# Altium footprint library BASIC Library.PCBLIB: 464 footprints (part 21 of 30)
Each footprint in its own frame and in the unit in brackets; x right, y up, seen from the top. Pads: shape width x height; smd on the part's side, far side on the other; paste and mask are expansions set on the pad; w line width, h text height; cw(c..) or ccw(c..) is an arc to the next point about the centre after c.
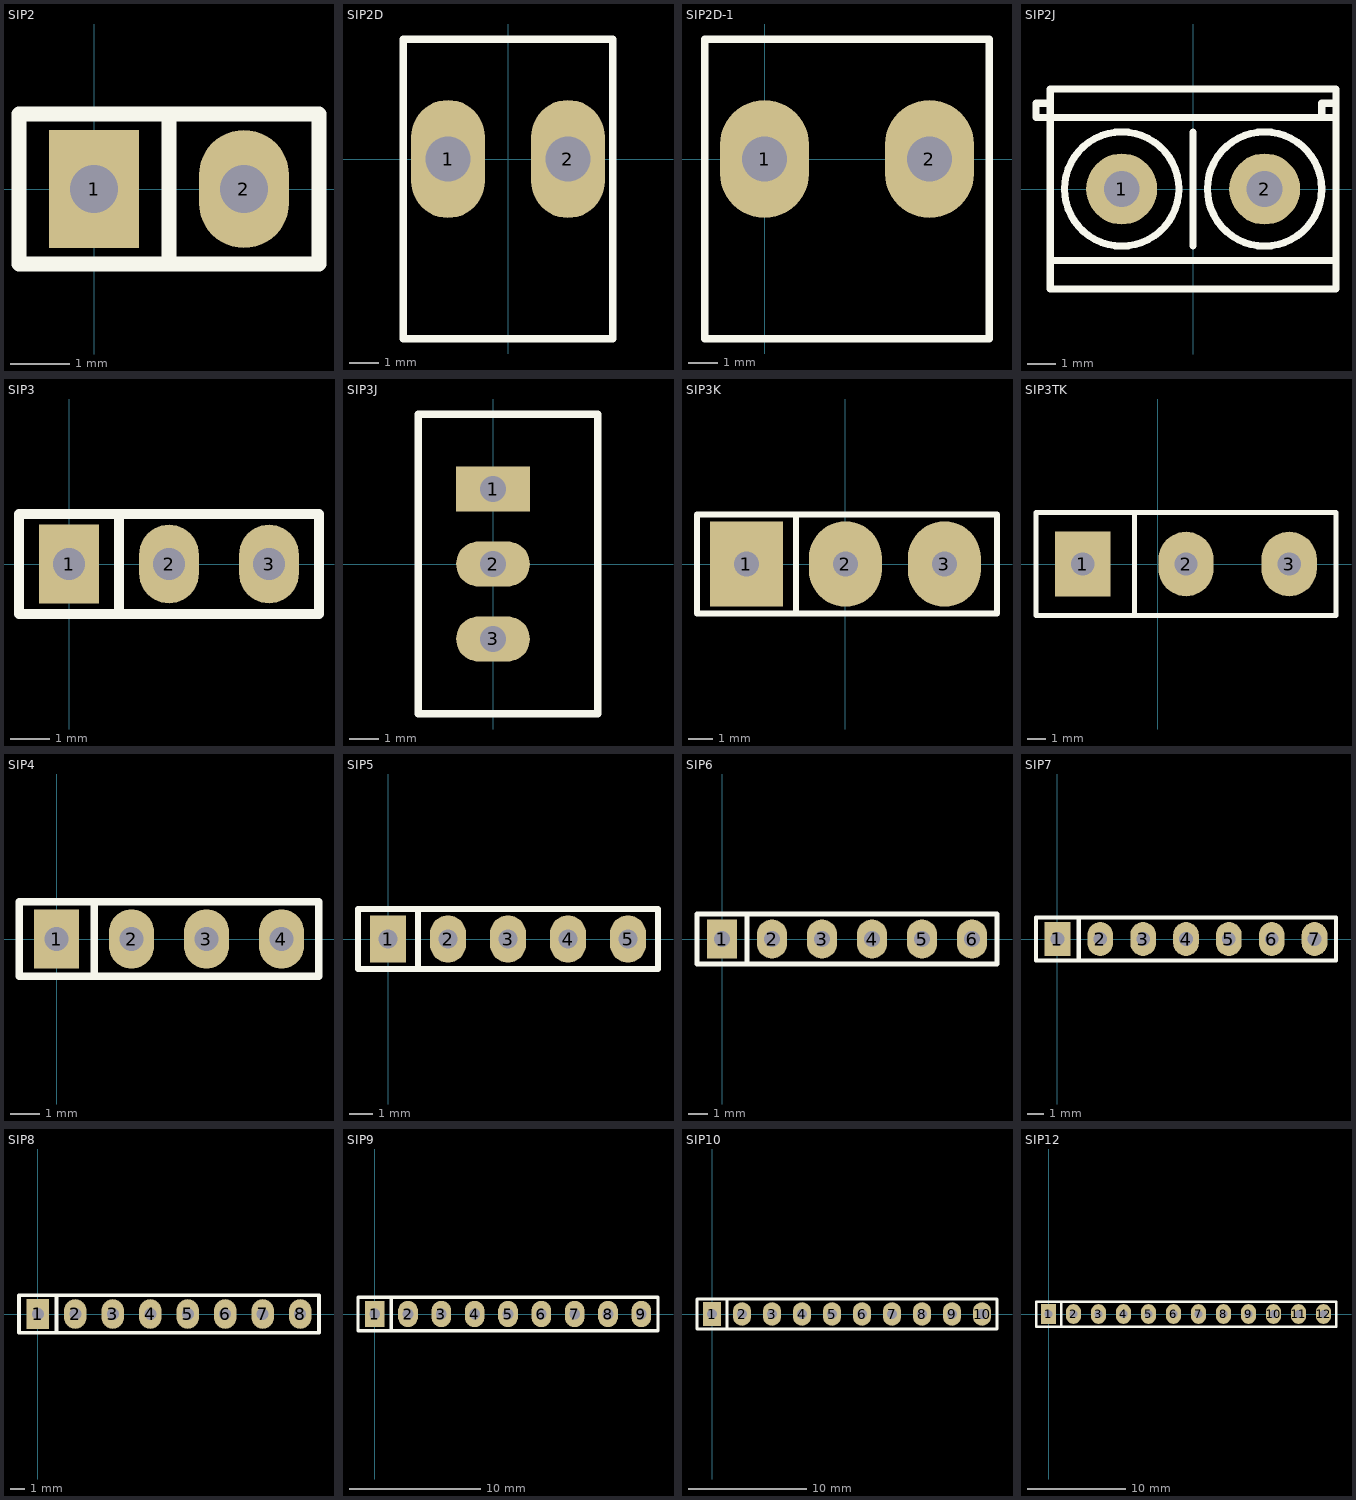
[diagram p20: the footprints below, top view; thin cyan lines are the x and y axes]

## SIP2 [mil]
pads (2):
  rect 60x78.74 hole 32: 1(0,0)
  oval 60x78.74 hole 32: 2(100,0)
TopOverlay:
  lines w10: 50,-50 50,50 ; -50,-50 -50,50 150,50 150,-50 -50,-50

## SIP2D [mil]
pads (2):
  oval 98.42x157.48 hole 60: 1(-80,0) 2(80,0)
TopOverlay:
  lines w10: -140,-240 140,-240 140,160 -140,160 -140,-240

## SIP2D-1 [mm]
pads (2):
  oval 3x4 hole 1.524: 1(0,0) 2(5.588,0)
TopOverlay:
  lines w0.254: -2.032,-6.096 7.62,-6.096 7.62,4.064 7.112,4.064 -2.032,4.064 -2.032,-6.096

## SIP2J [mil]
pads (2):
  round 99.37 hole 50: 1(-100,0) 2(100,0)
TopOverlay:
  circle w10: c100,0 r80
  circle w10: c-100,0 r80
  lines w10: -200,-100 200,-100 ; 0,-80 0,80 ; 180,100 180,120 200,120 ; -200,100 -200,120 ; -200,100 -220,100 -220,120 -200,120 ; -200,100 -200,-140 200,-140 200,100 ; -200,100 200,100 ; -200,120 -200,140 200,140 200,120 ; 200,100 200,120

## SIP3 [mil]
pads (3):
  rect 60x78.74 hole 32: 1(0,0)
  oval 60x78.74 hole 32: 2(100,0) 3(200,0)
TopOverlay:
  lines w10: 50,-50 50,50 ; -50,-50 250,-50 250,50 -50,50 -50,-50

## SIP3J [mil]
pads (3):
  rect 98.42x60 hole 35: 1(0,100)
  oval 98.42x60 hole 35: 2(0,0) 3(0,-100)
TopOverlay:
  lines w10: -100,-200 140,-200 140,200 -100,200 -100,-200

## SIP3K [mm]
pads (3):
  rect 3x3.5 hole 1.016: 1(-4.064,0)
  oval 3x3.5 hole 1.016: 2(0,0) 3(4.064,0)
TopOverlay:
  lines w0.254: -2.032,-2.032 -2.032,2.032 ; -6.096,-2.032 -6.096,2.032 6.223,2.032 6.223,-2.032 3.048,-2.032 -6.096,-2.032

## SIP3TK [mm]
pads (3):
  rect 3x3.5 hole 1.27: 1(-4.064,0)
  oval 3x3.5 hole 1.27: 2(1.524,0) 3(7.112,0)
TopOverlay:
  lines w0.254: -1.27,-2.794 -1.27,2.794 ; -6.604,-2.794 9.652,-2.794 9.652,2.794 -6.604,2.794 -6.604,-2.794

## SIP4 [mil]
pads (4):
  rect 60x78.74 hole 32: 1(0,0)
  oval 60x78.74 hole 32: 2(100,0) 3(200,0) 4(300,0)
TopOverlay:
  lines w10: 50,-50 50,50 ; -50,-50 350,-50 350,50 -50,50 -50,-50

## SIP5 [mil]
pads (5):
  rect 60x78.74 hole 32: 1(0,0)
  oval 60x78.74 hole 32: 2(100,0) 3(200,0) 4(300,0) 5(400,0)
TopOverlay:
  lines w10: 50,-50 50,50 ; -50,-50 450,-50 450,50 -50,50 -50,-50

## SIP6 [mil]
pads (6):
  rect 60x78.74 hole 32: 1(0,0)
  oval 60x78.74 hole 32: 2(100,0) 3(200,0) 4(300,0) 5(400,0) 6(500,0)
TopOverlay:
  lines w10: 50,-50 50,50 ; -50,-50 550,-50 550,50 -50,50 -50,-50

## SIP7 [mil]
pads (7):
  rect 60x78.74 hole 32: 1(0,0)
  oval 60x78.74 hole 32: 2(100,0) 3(200,0) 4(300,0) 5(400,0) 6(500,0) 7(600,0)
TopOverlay:
  lines w10: 50,-50 50,50 ; -50,-50 650,-50 650,50 -50,50 -50,-50

## SIP8 [mil]
pads (8):
  rect 60x78.74 hole 32: 1(0,0)
  oval 60x78.74 hole 32: 2(100,0) 3(200,0) 4(300,0) 5(400,0) 6(500,0) 7(600,0) 8(700,0)
TopOverlay:
  lines w10: 50,-50 50,50 ; -50,-50 750,-50 750,50 -50,50 -50,-50

## SIP9 [mm]
pads (9):
  rect 1.5x2 hole 0.813: 1(0,0)
  oval 1.5x2 hole 0.813: 2(2.54,0) 3(5.08,0) 4(7.62,0) 5(10.16,0) 6(12.7,0) 7(15.24,0) 8(17.78,0) 9(20.32,0)
TopOverlay:
  lines w0.254: 1.27,-1.27 1.27,1.27 ; -1.27,-1.27 -1.27,1.27 21.59,1.27 21.59,-1.27 -1.27,-1.27

## SIP10 [mil]
pads (10):
  rect 60x78.74 hole 32: 1(0,0)
  oval 60x78.74 hole 32: 2(100,0) 3(200,0) 4(300,0) 5(400,0) 6(500,0) 7(600,0) 8(700,0) 9(800,0) 10(900,0)
TopOverlay:
  lines w10: 50,-50 50,50 ; -50,-50 950,-50 950,50 -50,50 -50,-50

## SIP12 [mil]
pads (12):
  rect 60x78.74 hole 32: 1(0,0)
  oval 60x78.74 hole 32: 2(100,0) 3(200,0) 4(300,0) 5(400,0) 6(500,0) 7(600,0) 8(700,0) 9(800,0) 10(900,0) 11(1000,0) 12(1100,0)
TopOverlay:
  lines w10: 50,-50 50,50 ; -50,-50 -50,50 1150,50 1150,-50 -50,-50